# Altium footprint library 693022010811.PcbLib: 2 footprints
Each footprint in its own frame and in the unit in brackets; x right, y up, seen from the top. Pads: shape width x height; smd on the part's side, far side on the other; paste and mask are expansions set on the pad; w line width, h text height; cw(c..) or ccw(c..) is an arc to the next point about the centre after c.
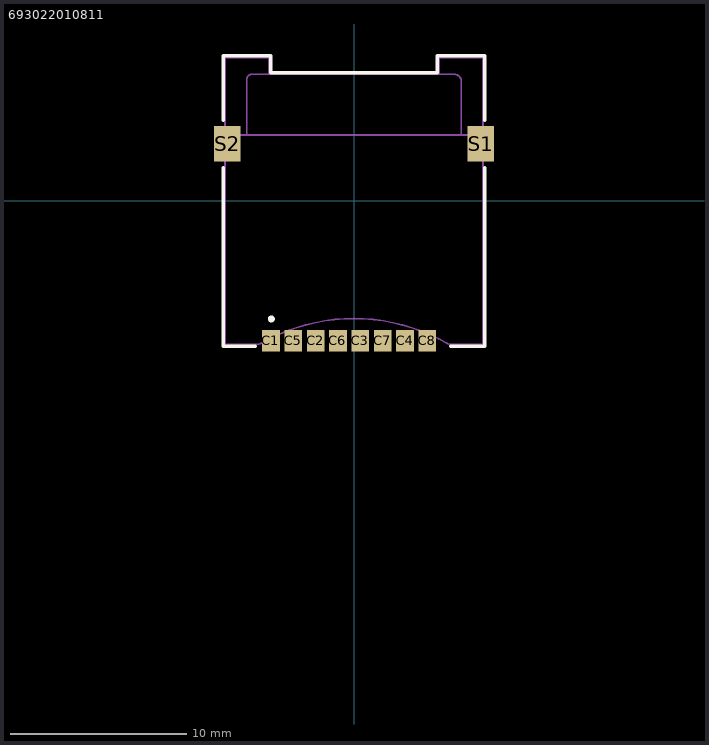
[diagram p0: the footprints below, top view; thin cyan lines are the x and y axes]

## 693022010811 [mm]
pads (10):
  rect 1x1.2 smd: C1(-4.72,-7.95) C2(-2.18,-7.95) C3(0.36,-7.95) C4(2.9,-7.95) C5(-3.45,-7.95) C6(-0.91,-7.95) C7(1.63,-7.95) C8(4.17,-7.95)
  rect 1.5x2 smd: S1(7.2,3.25) S2(-7.2,3.25)
Top Overlay:
  circle w0.2: c-4.7,-6.71 r0.1
  lines w0.2: -7.43,1.9 -7.43,-8.25 -5.6,-8.25 ; -7.43,4.6 -7.43,8.25 -4.73,8.25 -4.73,7.3 4.73,7.3 4.73,8.25 7.43,8.25 7.43,4.6 ; 5.5,-8.25 7.43,-8.25 7.43,1.9
Mechanical 13:
  lines w0.1: -7.3,3.75 -6.1,3.75 ; -5.38,-8.15 -7.33,-8.15 -7.33,8.15 -4.83,8.15 -4.83,7.2 ; -5.31,-8.109 cw(c0,-17.306) 5.31,-8.109 ; 5.38,-8.15 7.33,-8.15 7.33,8.15 4.83,8.15 4.83,7.2 ; 7.3,3.75 6.1,3.75 ; -6.1,3.75 6.1,3.75 ; -6.1,3.75 -6.1,6.9 cw(c-5.8,6.9) -5.8,7.2 -4.83,7.2 ; -4.83,7.2 4.83,7.2 ; 4.83,7.2 5.7,7.2 cw(c5.7,6.8) 6.1,6.8 6.1,3.75

## PCBComponent_1 [mm]